# EAGLE library part LTC4006EGN-2#TRPBF (library Battery Chargers)
Charger IC Lithium-Ion 16-SSOP Manufacturer's datasheet <https://www.analog.com/media/en/technical-documentation/data-sheets/4006fa.pdf>
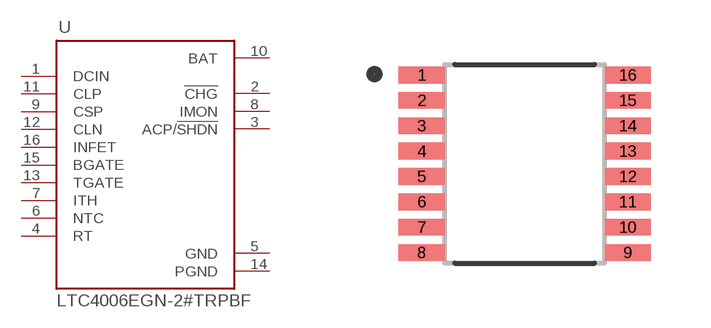
[diagram p1: symbol with the pads of LTC4006EGN-2#TRPBF; footprint LTC4006EGN-2#TRPBF]

Designator prefix U

## LTC4006EGN-2#TRPBF (CREATED_BY: PCBLayout.com; DIGIKEY_PART_NUMBER: LTC4006EGN-2#TRPBFCT-ND; MANUFACTURER: Linear Technology/Analog Devices; MPN: LTC4006EGN-2#TRPBF; PACKAGE: 16-SSOP)  [LTC4006EGN-2#TRPBF]
1  DCIN  in
2  !CHG  out
3  ACP/!SHDN  out
4  RT  pas
5  GND  pwr
6  NTC  pas
7  ITH  pas
8  IMON  out
9  CSP  in
10  BAT  pwr
11  CLP  in
12  CLN  in
13  TGATE  pas
14  PGND  pwr
15  BGATE  pas
16  INFET  in

## Footprint LTC4006EGN-2#TRPBF (pad centres in mm)
smd 1.15 x 0.42: 1 -2.575,2.223; 2 -2.575,1.587; 3 -2.575,0.953; 4 -2.575,0.318; 5 -2.575,-0.318; 6 -2.575,-0.953; 7 -2.575,-1.587; 8 -2.575,-2.223; 9 2.575,-2.223; 10 2.575,-1.587; 11 2.575,-0.953; 12 2.575,-0.318; 13 2.575,0.318; 14 2.575,0.953; 15 2.575,1.587; 16 2.575,2.223